# EAGLE library part STLZ_1550/10GV (library con-ptr-stlz1550)
HEADER
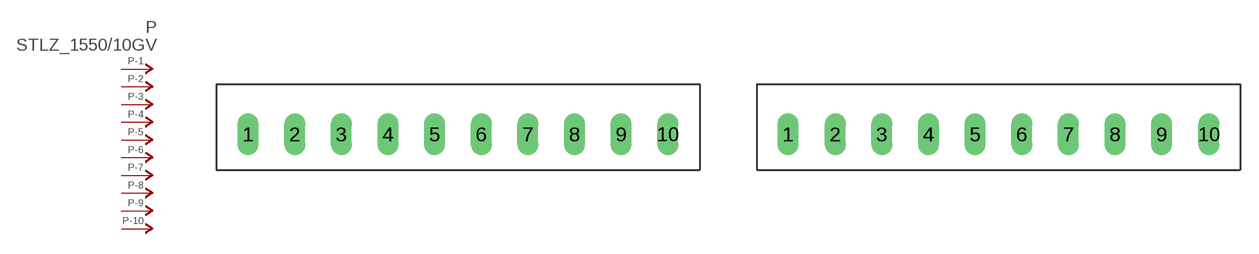
[diagram p1: symbol with the pads of PAC-10; footprints PAC-10, PAC-10_0P05MM_OFFSET]

Designator prefix P; gates -1=P-NV -2=P-N -3=P-N -4=P-N -5=P-N -6=P-N -7=P-N -8=P-N -9=P-N -10=P-N

## STLZ_1550/10GV (OC_TME: 15EDGVC3.81-10P)  [PAC-10]
1  -1:P  pas
2  -2:P  pas
3  -3:P  pas
4  -4:P  pas
5  -5:P  pas
6  -6:P  pas
7  -7:P  pas
8  -8:P  pas
9  -9:P  pas
10  -10:P  pas

## STLZ_1550/10GV0P05MM_OFFSET  [PAC-10_0P05MM_OFFSET]
Pads as for PAC-10

## STLZ_1550/10GV0P1MM_OFFSET  [PAC-10_0P1MM_OFFSET]
Pads as for PAC-10

## Footprint PAC-10 (pad centres in mm)
HEADER
drill 1.15 long: 1 -17.145,0; 2 -13.335,0; 3 -9.525,0; 4 -5.715,0; 5 -1.905,0; 6 1.905,0; 7 5.715,0; 8 9.525,0; 9 13.335,0; 10 17.145,0

## Footprint PAC-10_0P05MM_OFFSET (pad centres in mm)
1st and 10th pins are off from the pitch with ±0.05 mm to secure the connector before the TH soldering.
drill 1.15 long: 1 -17.195,0; 2 -13.335,0; 3 -9.525,0; 4 -5.715,0; 5 -1.905,0; 6 1.905,0; 7 5.715,0; 8 9.525,0; 9 13.335,0; 10 17.195,0

## Footprint PAC-10_0P1MM_OFFSET (pad centres in mm)
1st and 10th pins are off from the pitch with ±0.1 mm to secure the connector before the TH soldering.
drill 1.15 long: 1 -17.245,0; 2 -13.335,0; 3 -9.525,0; 4 -5.715,0; 5 -1.905,0; 6 1.905,0; 7 5.715,0; 8 9.525,0; 9 13.335,0; 10 17.245,0